# Altium integrated library 4.7uF_Pol_Cap_EEVEB2V4R7Q.IntLib: 1 symbol
Pins are listed as number, name and electrical type; pins without a type are passive.

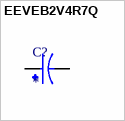
[diagram p0: symbol EEVEB2V4R7Q]

## EEVEB2V4R7Q
designator C?
CAP ALUM 4.7UF 20% 350V SMD; MF: Panasonic Electronic Components; MP: EEV-EB2V4R7Q; Availability: In Stock; Price: None; SnapEDA_Link: https://www.snapeda.com/parts/EEV-EB2V4R7Q/Panasonic%20Electronic%20Components/view-part/3655945/?ref=snap; Value: *; Check_prices: https://www.snapeda.com/parts/EEV-EB2V4R7Q/Panasonic%20Electronic%20Components/view-part/3655945/?ref=eda; Package: RADIAL-2 Panasonic; ComponentLink1Description: New link; ComponentLink1URL: *
footprint CAP_EEVEB2V4R7Q
pins: 1, 2